# EAGLE library part TPS61027 (library IC)
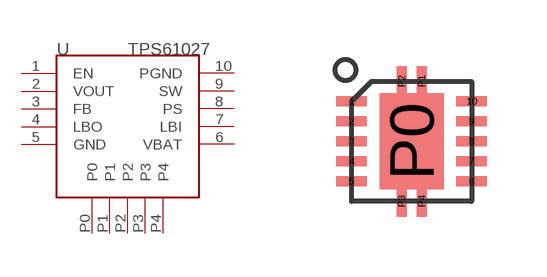
[diagram p145: symbol with the pads of QFN10; footprint QFN10]

Designator prefix U

## TPS61027  [QFN10]
1  EN
2  VOUT
3  FB
4  LBO
5  GND
6  VBAT
7  LBI
8  PS
9  SW
10  PGND
P0  P0
P1  P1
P2  P2
P3  P3
P4  P4

## Footprint QFN10 (pad centres in mm)
smd 0.762 x 0.254: 1 -1.5,1; 2 -1.5,0.5; 3 -1.5,0; 4 -1.5,-0.5; 5 -1.5,-1; 6 1.5,-1; 7 1.5,-0.5; 8 1.5,0; 9 1.5,0.5; 10 1.5,1
smd 1.6 x 2.4: P0 0,0
smd 0.254 x 0.762: P1 0.25,1.5; P2 -0.25,1.5; P3 -0.25,-1.5; P4 0.25,-1.5